# Altium footprint library PcbLib1.PcbLib: 8 footprints
Each footprint in its own frame and in the unit in brackets; x right, y up, seen from the top. Pads: shape width x height; smd on the part's side, far side on the other; paste and mask are expansions set on the pad; w line width, h text height; cw(c..) or ccw(c..) is an arc to the next point about the centre after c.
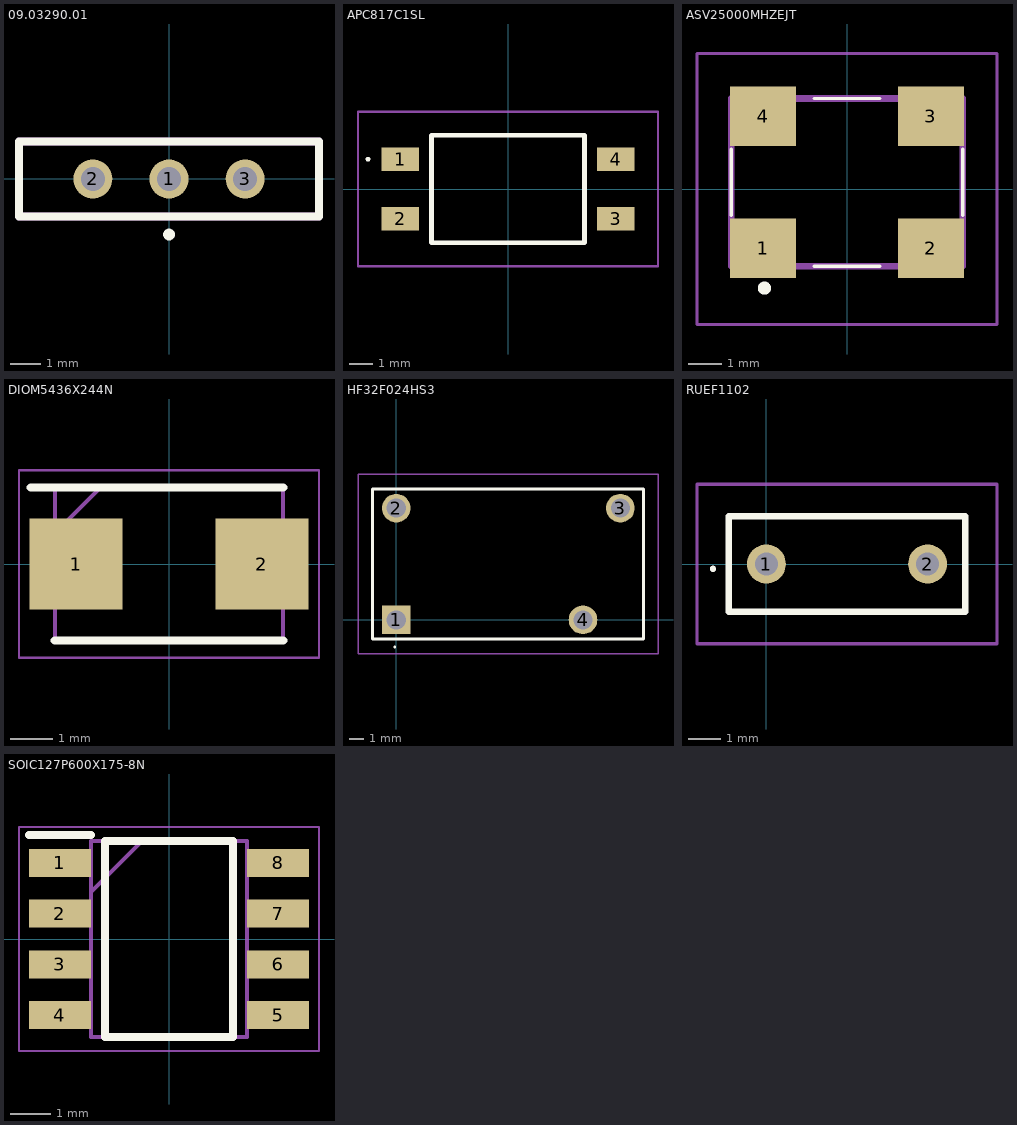
[diagram p0: the footprints below, top view; thin cyan lines are the x and y axes]

## 09.03290.01 [mm]
pads (3):
  round 1.3 hole 0.8: 1(0,0) 2(-2.54,0) 3(2.54,0)
Top Overlay:
  circle w0.254: c0.002,-1.853 r0.067
  lines w0.254: -5,-1.25 5,-1.25 5,1.25 -5,1.25 -5,-1.25
Mechanical 13:
  lines w0.254: -5,-1.25 -5,1.25 5,1.25 5,-1.25 -5,-1.25
3D body "09-03290.01.stp": height 7.8, standoff -5.05, extent -5,-1.25 5,1.25

## APC817C1SL [mm]
pads (4):
  rect 1.6x1 smd: 1(-4.575,1.27) 2(-4.575,-1.27) 3(4.575,-1.27) 4(4.575,1.27)
Top Overlay:
  lines w0.1: -6,1.27 cw(c-5.95,1.27) -5.9,1.27 cw(c-5.95,1.27) -6,1.27
  lines w0.2: -3.25,-2.29 3.25,-2.29 3.25,2.29 -3.25,2.29 -3.25,-2.29
Mechanical 13:
  lines w0.1: -3.25,-2.29 3.25,-2.29 3.25,2.29 -3.25,2.29 -3.25,-2.29
Mechanical 15:
  lines w0.1: -6.375,-3.29 6.375,-3.29 6.375,3.29 -6.375,3.29 -6.375,-3.29
3D body "APC-817C1-SL.stp": height 3.6, standoff 0, extent -5.075,-2.29 5.075,2.29

## ASV25000MHZEJT [mm]
pads (4):
  rect 2x1.8 smd: 1(-2.54,-1.8) 2(2.54,-1.8) 3(2.54,2.2) 4(-2.54,2.2)
Top Overlay:
  lines w0.1: -3.5,-0.8 -3.5,1.2 ; -1,-2.34 1,-2.34 ; -1,2.74 1,2.74 ; 3.5,-0.8 3.5,1.2
  lines w0.2: -2.6,-3 ccw(c-2.5,-3) -2.4,-3 ccw(c-2.5,-3) -2.6,-3
Mechanical 13:
  lines w0.2: -3.5,-2.34 -3.5,2.74 3.5,2.74 3.5,-2.34 -3.5,-2.34
Mechanical 15:
  lines w0.1: -4.54,-4.1 -4.54,4.1 4.54,4.1 4.54,-4.1 -4.54,-4.1
3D body "ASV-50.000MHZ-LRS-T.stp": height 1.9, standoff 0, extent -3.5,-2.52 3.5,2.92

## DIOM5436X244N [mm]
pads (2):
  rect 2.2x2.15 smd: 1(-2.2,0) 2(2.2,0)
Top Overlay:
  lines w0.2: -3.275,1.81 2.7,1.81 ; -2.7,-1.81 2.7,-1.81
Mechanical 13:
  lines w0.1: -2.7,0.735 -1.625,1.81 ; -2.7,-1.81 -2.7,1.81 2.7,1.81 2.7,-1.81 -2.7,-1.81
Mechanical 15:
  lines w0.05: -3.55,-2.22 -3.55,2.22 3.55,2.22 3.55,-2.22 -3.55,-2.22
3D body "SS24-E3_5BT.stp": height 0, standoff 0, extent 0,0 0,0

## HF32F024HS3 [mm]
pads (4):
  rect 1.95x1.95 hole 1.3: 1(0,0)
  round 1.95 hole 1.3: 2(0,7.6) 3(15.24,7.6) 4(12.7,0)
Top Overlay:
  lines w0.1: -0.1,-1.9 ccw(c-0.1,-1.85) -0.1,-1.8 ccw(c-0.1,-1.85) -0.1,-1.9
  lines w0.2: -1.6,-1.3 -1.6,8.9 16.8,8.9 16.8,-1.3 -1.6,-1.3
Mechanical 13:
  lines w0.1: -1.6,-1.3 -1.6,8.9 16.8,8.9 16.8,-1.3 -1.6,-1.3
Mechanical 15:
  lines w0.1: -2.6,-2.3 -2.6,9.9 17.8,9.9 17.8,-2.3 -2.6,-2.3
3D body "HF32F_024-HS3.stp": height 15.9, standoff -5, extent -1.6,-1.3 16.8,8.9

## PCBComponent_1 [mm]

## RUEF1102 [mm]
pads (2):
  round 1.218 hole 0.711: 1(0,0) 2(5.05,0)
Top Overlay:
  lines w0.1: -1.675,-0.2 ccw(c-1.675,-0.15) -1.675,-0.1 ccw(c-1.675,-0.15) -1.675,-0.2
  lines w0.2: -1.175,-1.5 6.225,-1.5 6.225,1.5 -1.175,1.5 -1.175,-1.5
Mechanical 13:
  lines w0.1: -1.175,-1.5 6.225,-1.5 6.225,1.5 -1.175,1.5 -1.175,-1.5
Mechanical 15:
  lines w0.1: -2.175,-2.5 7.225,-2.5 7.225,2.5 -2.175,2.5 -2.175,-2.5
3D body "RUEF110-2.stp": height 14.3, standoff -7.63, extent -1.17,-1.25 6.23,1.25

## SOIC127P600X175-8N [mm]
pads (8):
  rect 1.55x0.7 smd: 1(-2.725,1.905) 2(-2.725,0.635) 3(-2.725,-0.635) 4(-2.725,-1.905) 5(2.725,-1.905) 6(2.725,-0.635) 7(2.725,0.635) 8(2.725,1.905)
Top Overlay:
  lines w0.2: -3.5,2.605 -1.95,2.605 ; -1.6,-2.45 1.6,-2.45 1.6,2.45 -1.6,2.45 -1.6,-2.45
Mechanical 13:
  lines w0.1: -1.95,1.18 -0.68,2.45 ; -1.95,-2.45 1.95,-2.45 1.95,2.45 -1.95,2.45 -1.95,-2.45
Mechanical 15:
  lines w0.05: -3.75,-2.8 3.75,-2.8 3.75,2.8 -3.75,2.8 -3.75,-2.8
3D body "XL1509-5.0E1.stp": height 1.75, standoff 0, extent -3,-2.45 3,2.45